# EAGLE library part SPARKFUN-BATTERY-BABYSITTER (library Arduino-MITCH_Breakouts)
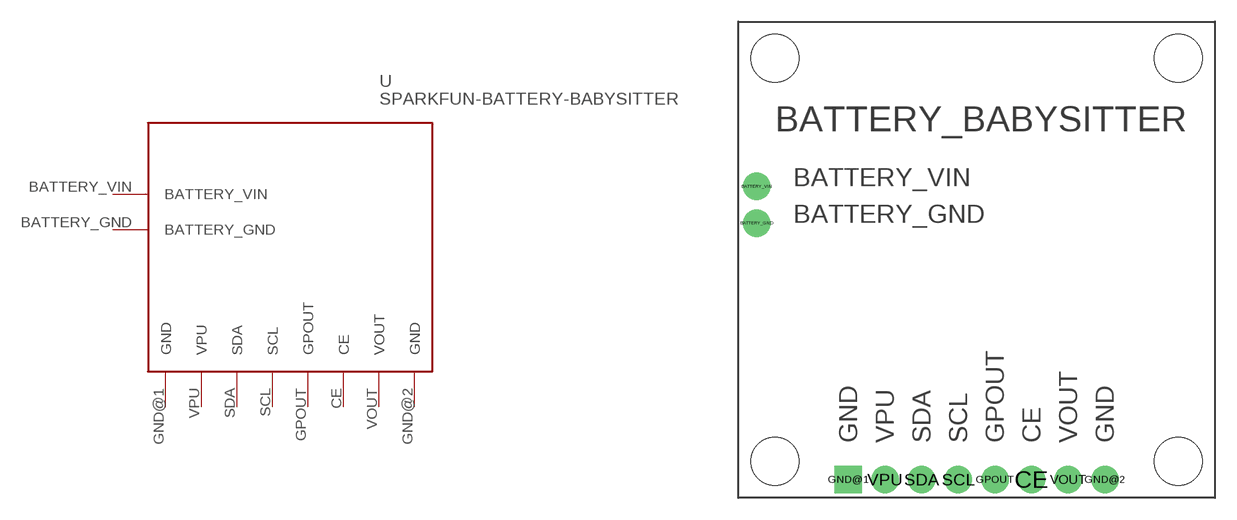
[diagram p3: symbol with the pads of SPARKFUN-BATTERY-BABYSITTER; footprint SPARKFUN-BATTERY-BABYSITTER]

Designator prefix -

## SPARKFUN-BATTERY-BABYSITTER  [SPARKFUN-BATTERY-BABYSITTER]
BATTERY_GND  BATTERY_GND
BATTERY_VIN  BATTERY_VIN
CE  CE
GND@1  GND
GND@2  GND
GPOUT  GPOUT
SCL  SCL
SDA  SDA
VOUT  VOUT
VPU  VPU

## Footprint SPARKFUN-BATTERY-BABYSITTER (pad centres in mm)
drill 1.016 pad 1.905: BATTERY_GND 1.27,19.05; BATTERY_VIN 1.27,21.59; CE 20.32,1.27; GND@2 25.4,1.27; GPOUT 17.78,1.27; SCL 15.24,1.27; SDA 12.7,1.27; VOUT 22.86,1.27; VPU 10.16,1.27
drill 1.016 pad 1.905 square: GND@1 7.62,1.27
hole 3.302 at 2.54,2.54
hole 3.302 at 30.48,2.54
hole 3.302 at 30.48,30.48
hole 3.302 at 2.54,30.48